# EAGLE library part DP83848 (library microbuilder)
DP83848 (40-LLP) - Single Port 10/100 Ethernet Transceiver Digikey: DP83848JSQCT-ND
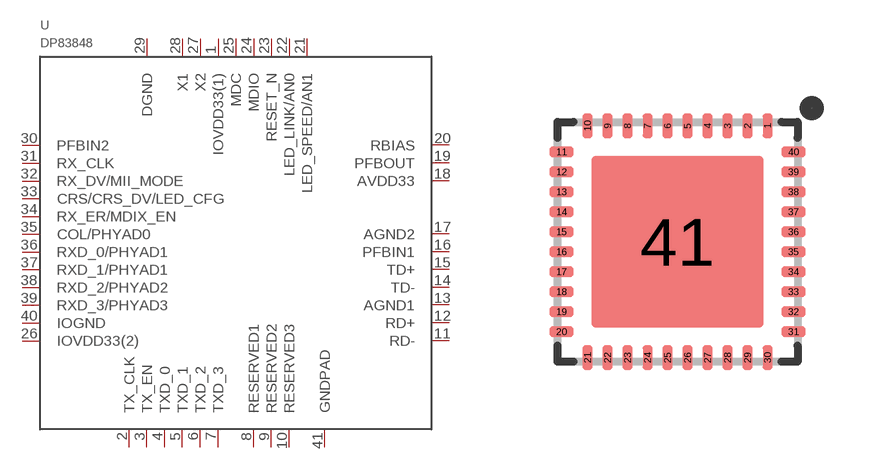
[diagram p62: symbol with the pads of LLP40; footprint LLP40]

Designator prefix U

## DP83848  [LLP40]
1  IOVDD33(1)
2  TX_CLK
3  TX_EN
4  TXD_0
5  TXD_1
6  TXD_2
7  TXD_3
8  RESERVED1
9  RESERVED2
10  RESERVED3
11  RD-
12  RD+
13  AGND1
14  TD-
15  TD+
16  PFBIN1
17  AGND2
18  AVDD33
19  PFBOUT
20  RBIAS
21  LED_SPEED/AN1
22  LED_LINK/AN0
23  RESET_N
24  MDIO
25  MDC
26  IOVDD33(2)
27  X2
28  X1
29  DGND
30  PFBIN2
31  RX_CLK
32  RX_DV/MII_MODE
33  CRS/CRS_DV/LED_CFG
34  RX_ER/MDIX_EN
35  COL/PHYAD0
36  RXD_0/PHYAD1
37  RXD_1/PHYAD1
38  RXD_2/PHYAD2
39  RXD_3/PHYAD3
40  IOGND
41  GNDPAD

## Footprint LLP40 (pad centres in mm)
40-LLP Package Source: http://cache.national.com/ds/DP/DP83848J.pdf
smd 0.25 x 0.6: 1 2.25,2.9; 2 1.75,2.9; 3 1.25,2.9; 4 0.75,2.9; 5 0.25,2.9; 6 -0.25,2.9; 7 -0.75,2.9; 8 -1.25,2.9; 9 -1.75,2.9; 10 -2.25,2.9; 21 -2.25,-2.9; 22 -1.75,-2.9; 23 -1.25,-2.9; 24 -0.75,-2.9; 25 -0.25,-2.9; 26 0.25,-2.9; 27 0.75,-2.9; 28 1.25,-2.9; 29 1.75,-2.9; 30 2.25,-2.9
smd 0.6 x 0.25: 11 -2.9,2.25; 12 -2.9,1.75; 13 -2.9,1.25; 14 -2.9,0.75; 15 -2.9,0.25; 16 -2.9,-0.25; 17 -2.9,-0.75; 18 -2.9,-1.25; 19 -2.9,-1.75; 20 -2.9,-2.25; 31 2.9,-2.25; 32 2.9,-1.75; 33 2.9,-1.25; 34 2.9,-0.75; 35 2.9,-0.25; 36 2.9,0.25; 37 2.9,0.75; 38 2.9,1.25; 39 2.9,1.75; 40 2.9,2.25
smd 4.3 x 4.3: 41 0,0